# EAGLE library part SIM_HOLDER (library bontor)
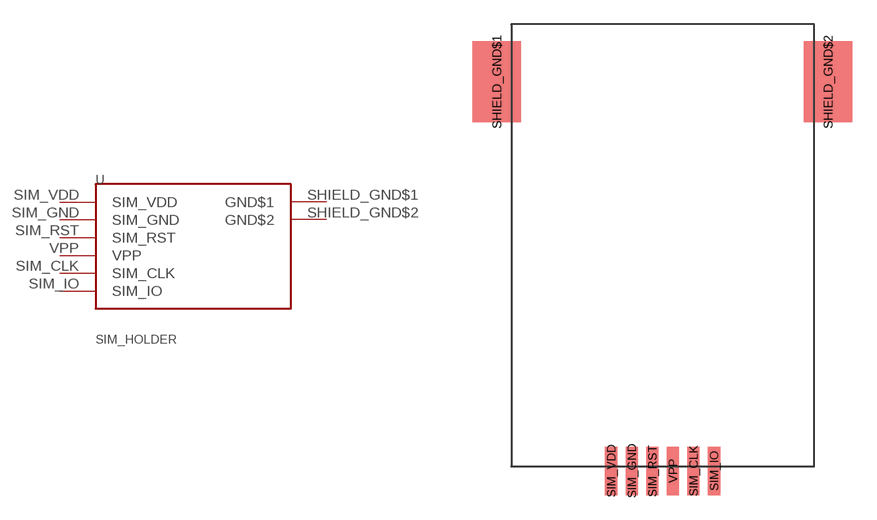
[diagram p11: symbol with the pads of SIMHOLDER-PUSHPUSH; footprint SIMHOLDER-PUSHPUSH]

Designator prefix -

## SIM_HOLDER  [SIMHOLDER-PUSHPUSH]
SHIELD_GND$1  GND$1
SHIELD_GND$2  GND$2
SIM_CLK  SIM_CLK
SIM_GND  SIM_GND
SIM_IO  SIM_IO
SIM_RST  SIM_RST
SIM_VDD  SIM_VDD
VPP  VPP

## Footprint SIMHOLDER-PUSHPUSH (pad centres in mm)
smd 3 x 5: SHIELD_GND$1 -10.24,9.2; SHIELD_GND$2 10.21,9.2
smd 0.75 x 3: SIM_CLK 1.9,-14.83; SIM_GND -1.91,-14.83; SIM_IO 3.17,-14.83; SIM_RST -0.64,-14.83; SIM_VDD -3.18,-14.83; VPP 0.63,-14.83